# Altium footprint library jlink072.PcbLib: 12 footprints
Each footprint in its own frame and in the unit in brackets; x right, y up, seen from the top. Pads: shape width x height; smd on the part's side, far side on the other; paste and mask are expansions set on the pad; w line width, h text height; cw(c..) or ccw(c..) is an arc to the next point about the centre after c.
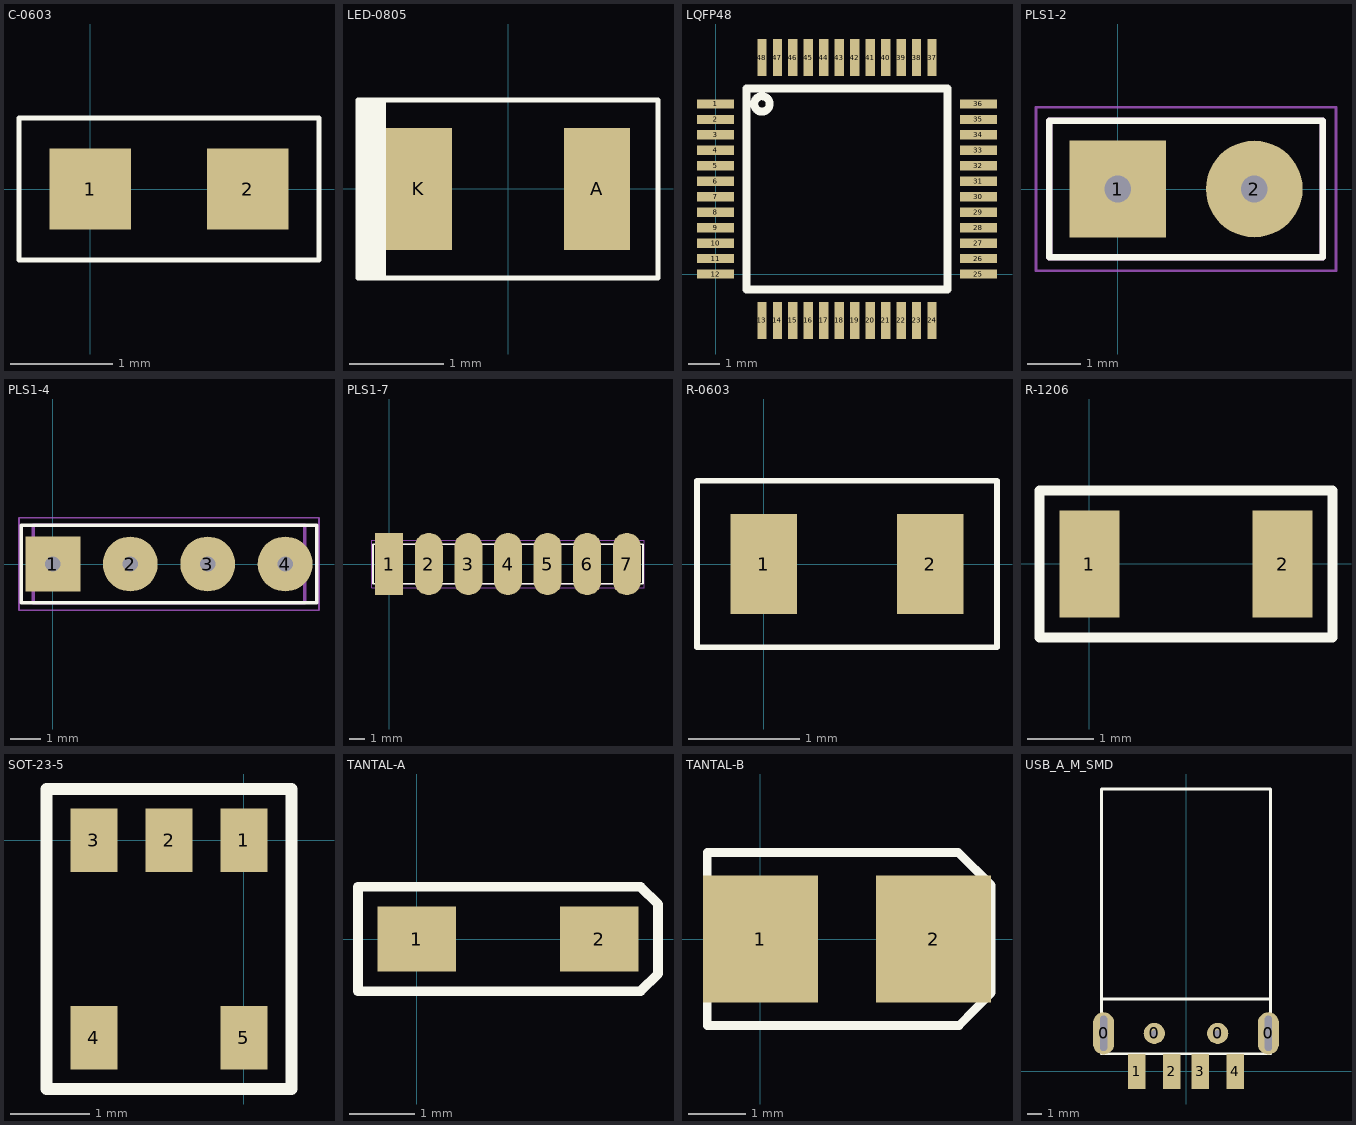
[diagram p0: the footprints below, top view; thin cyan lines are the x and y axes]

## C-0603 [mm]
pads (2):
  rect 0.8x0.8 smd: 1(0,0) 2(1.55,0)
Top Overlay:
  lines w0.05: -0.7,-0.7 2.25,-0.7 2.25,0.7 -0.7,0.7 -0.7,0 -0.7,-0.7
3D body "C_0603_1608Metric.step": height 0.8, standoff 0, extent 0,-0.4 1.6,0.4

## LED-0805 [mm]
pads (2):
  rect 0.7x1.3 smd: A(0.95,0) K(-0.95,0)
Top Overlay:
  rectangle: -1.6,-0.95 -1.3,0.95
  lines w0.05: -1.6,-0.95 -1.6,0 -1.6,0.95 1.6,0.95 1.6,-0.95 -1.6,-0.95
3D body "LED_0805_2012Metric.step": height 1.1, standoff 0, extent -1,-0.625 1,0.625

## LQFP48 [mm] "48 pins 0.5 pitch"
pads (48):
  rect 1.2x0.3 smd: 1(0,5.5) 2(0,5) 3(0,4.5) 4(0,4) 5(0,3.5) 6(0,3) 7(0,2.5) 8(0,2) 9(0,1.5) 10(0,1) 11(0,0.5) 12(0,0) 25(8.5,0) 26(8.5,0.5) 27(8.5,1) 28(8.5,1.5) 29(8.5,2) 30(8.5,2.5) 31(8.5,3) 32(8.5,3.5) 33(8.5,4) 34(8.5,4.5) 35(8.5,5) 36(8.5,5.5)
  rect 0.3x1.2 smd: 13(1.5,-1.5) 14(2,-1.5) 15(2.5,-1.5) 16(3,-1.5) 17(3.5,-1.5) 18(4,-1.5) 19(4.5,-1.5) 20(5,-1.5) 21(5.5,-1.5) 22(6,-1.5) 23(6.5,-1.5) 24(7,-1.5) 37(7,7) 38(6.5,7) 39(6,7) 40(5.5,7) 41(5,7) 42(4.5,7) 43(4,7) 44(3.5,7) 45(3,7) 46(2.5,7) 47(2,7) 48(1.5,7)
Top Overlay:
  circle w0.254: c1.5,5.5 r0.25
  lines w0.25: 1,-0.5 1,6 7.5,6 7.5,-0.5 1,-0.5
3D body "LQFP-48_7x7mm_P0.5mm.step": height 1.5, standoff 0, extent -0.25,-1.75 8.75,7.25

## PLS1-2 [mm] "Header, Vertical, 2.54 mm pitch; 0.64 mm lead width, 2 pins, 1 row, 2 pins per row, 5.08 mm L X 2.54 mm W X 8.54 mm H body"
height 8.54
pads (2):
  rect 1.8x1.8 hole 0.5 paste-1.59: 1(0,0)
  round 1.8 hole 0.5 paste-1.59: 2(2.54,0)
Top Overlay:
  lines w0.12: -1.27,-1.27 -1.27,1.27 3.81,1.27 3.81,-1.27 -1.27,-1.27
Mechanical 11:
  lines w0.12: -1.27,-1.27 -1.27,1.27 3.81,1.27 3.81,-1.27 -1.27,-1.27
Mechanical 12:
  lines w0.025: -1.27,-1.27 -1.27,1.27 3.81,1.27 3.81,-1.27 -1.27,-1.27 ; -0.32,-0.32 -0.32,0.32 0.32,0.32 0.32,-0.32 -0.32,-0.32 ; 2.22,-0.32 2.22,0.32 2.86,0.32 2.86,-0.32 2.22,-0.32
Mechanical 15:
  circle w0.05: c0,0 r0.25
  lines w0.05: -0.35,0 0.35,0 ; 0,-0.35 0,0.35 ; -1.52,-1.52 -1.52,1.52 4.06,1.52 4.06,-1.52 -1.52,-1.52
3D body "HDRV2W64P254_2X1_508X254H854.STEP": height 8.54, standoff -2.3, extent -1.27,-1.27 3.81,1.27

## PLS1-4 [mm] "Header, Vertical, 2.54 mm pitch; 0.70 mm lead width, 4 pins, 1 row, 4 pins per row, 8.89 mm L X 2.54 mm W X 7.54 mm H body"
height 7.54
pads (4):
  rect 1.8x1.8 hole 0.5 paste-1.71: 1(0,0)
  round 1.8 hole 0.5 paste-1.71: 2(2.54,0) 3(5.08,0) 4(7.62,0)
Top Overlay:
  lines w0.12: -1.04,-1.27 -1.04,1.27 8.66,1.27 8.66,-1.27 -1.04,-1.27
Mechanical 11:
  lines w0.12: -0.64,-1.27 -0.64,1.27 8.26,1.27 8.26,-1.27 -0.64,-1.27
Mechanical 12:
  lines w0.025: -0.635,-1.27 -0.635,1.27 8.255,1.27 8.255,-1.27 -0.635,-1.27 ; -0.35,-0.35 -0.35,0.35 0.35,0.35 0.35,-0.35 -0.35,-0.35 ; 2.19,-0.35 2.19,0.35 2.89,0.35 2.89,-0.35 2.19,-0.35 ; 4.73,-0.35 4.73,0.35 5.43,0.35 5.43,-0.35 4.73,-0.35 ; 7.27,-0.35 7.27,0.35 7.97,0.35 7.97,-0.35 7.27,-0.35
Mechanical 15:
  circle w0.05: c0,0 r0.25
  lines w0.05: -0.35,0 0.35,0 ; 0,-0.35 0,0.35 ; -1.11,-1.52 -1.11,1.52 8.73,1.52 8.73,-1.52 -1.11,-1.52
3D body "HDRV4W70P254_4X1_889X254H754.STEP": height 7.54, standoff -2.3, extent -0.635,-1.27 8.255,1.27

## PLS1-7 [mm] "Header, Vertical, 2.54 mm pitch; 0.70 mm lead width, 7 pins, 1 row, 7 pins per row, 16.51 mm L X 2.54 mm W X 7.54 mm H body"
height 7.54
pads (7):
  rect 1.8x4 smd paste-1.71: 1(0,0)
  oval 1.8x4 smd paste-1.71: 2(2.54,0) 3(5.08,0) 4(7.62,0) 5(10.16,0) 6(12.7,0) 7(15.24,0)
Top Overlay:
  lines w0.12: -1.04,-1.27 -1.04,1.27 16.28,1.27 16.28,-1.27 -1.04,-1.27
Mechanical 11:
  lines w0.12: -0.64,-1.27 -0.64,1.27 15.88,1.27 15.88,-1.27 -0.64,-1.27
Mechanical 12:
  lines w0.025: -0.635,-1.27 -0.635,1.27 15.875,1.27 15.875,-1.27 -0.635,-1.27 ; -0.35,-0.35 -0.35,0.35 0.35,0.35 0.35,-0.35 -0.35,-0.35 ; 2.19,-0.35 2.19,0.35 2.89,0.35 2.89,-0.35 2.19,-0.35 ; 4.73,-0.35 4.73,0.35 5.43,0.35 5.43,-0.35 4.73,-0.35 ; 7.27,-0.35 7.27,0.35 7.97,0.35 7.97,-0.35 7.27,-0.35 ; 9.81,-0.35 9.81,0.35 10.51,0.35 10.51,-0.35 9.81,-0.35 ; 12.35,-0.35 12.35,0.35 13.05,0.35 13.05,-0.35 12.35,-0.35 ; 14.89,-0.35 14.89,0.35 15.59,0.35 15.59,-0.35 14.89,-0.35
Mechanical 15:
  circle w0.05: c0,0 r0.25
  lines w0.05: -0.35,0 0.35,0 ; 0,-0.35 0,0.35 ; -1.11,-1.52 -1.11,1.52 16.35,1.52 16.35,-1.52 -1.11,-1.52
3D body "HDRV7W70P254_7X1_1651X254H754.STEP": height 7.54, standoff -2.3, extent -0.635,-1.27 15.875,1.27

## R-0603 [mm]
pads (2):
  rect 0.6x0.9 smd: 1(0,0) 2(1.5,0)
Top Overlay:
  lines w0.05: -0.6,-0.75 2.1,-0.75 2.1,0.75 -0.6,0.75 -0.6,0 -0.6,-0.75
3D body "R_0603_1608Metric.step": height 0.45, standoff 0, extent 0,-0.4 1.6,0.4

## R-1206 [mm]
pads (2):
  rect 0.9x1.6 smd: 1(0,0) 2(2.9,0)
Top Overlay:
  lines w0.15: -0.75,-1.1 3.65,-1.1 3.65,1.1 -0.75,1.1 -0.75,0 -0.75,-1.1
3D body "R_1206_3216Metric.step": height 0.55, standoff 0, extent -0.2,-0.8 3,0.8

## SOT-23-5 [mm]
pads (5):
  rect 0.6x0.8 smd: 1(0,0) 2(-0.95,0) 3(-1.9,0) 4(-1.9,-2.5) 5(0,-2.5)
Top Overlay:
  lines w0.15: -2.5,-3.15 -2.5,0.65 0.6,0.65 0.6,-3.15 -2.5,-3.15
3D body "SOT-23-5.step": height 1.55, standoff 0, extent -2.4,-2.67 0.5,0.13

## TANTAL-A [mm]
pads (2):
  rect 1.2x1 smd: 1(0,0) 2(2.8,0)
Top Overlay:
  lines w0.15: -0.9,-0.8 -0.9,0 -0.9,0.8 3.433,0.8 3.7,0.533 3.7,-0.533 3.433,-0.8 -0.9,-0.8
3D body "CP_EIA-3216-12_Kemet-S.step": height 1.2, standoff 0, extent -0.3,-0.9 3.1,0.9

## TANTAL-B [mm]
pads (2):
  rect 2x2.2 smd: 1(0,0) 2(3,0)
Top Overlay:
  lines w0.15: -0.925,-1.5 -0.925,0 -0.925,1.5 3.43,1.5 4,0.933 4,-0.933 3.44,-1.5 -0.925,-1.5
3D body "CP_EIA-3528-21_Kemet-B.step": height 2.1, standoff 0, extent -0.15,-1.4 3.35,1.4

## USB_A_M_SMD [mm] "usb male smd mount"
pads (8):
  oval 1.5x3 hole 0.5 slot 2.5 at 90 deg: 0(-5.85,2.7) 0(5.85,2.7)
  round 1.5 hole 0.5 unplated mask+0: 0(-2.25,2.7) 0(2.25,2.7)
  rect 1.25x2.5 smd: 1(-3.5,0) 2(-1,0) 3(1,0) 4(3.5,0)
Top Overlay:
  lines w0.2: -6,5.15 6,5.15 ; -6,1.25 -6,20.05 6,20.05 6,1.25 -6,1.25